# Altium footprint library project_x_pcb_library.PcbLib: 29 footprints (part 2 of 2)
Each footprint in its own frame and in the unit in brackets; x right, y up, seen from the top. Pads: shape width x height; smd on the part's side, far side on the other; paste and mask are expansions set on the pad; w line width, h text height; cw(c..) or ccw(c..) is an arc to the next point about the centre after c.
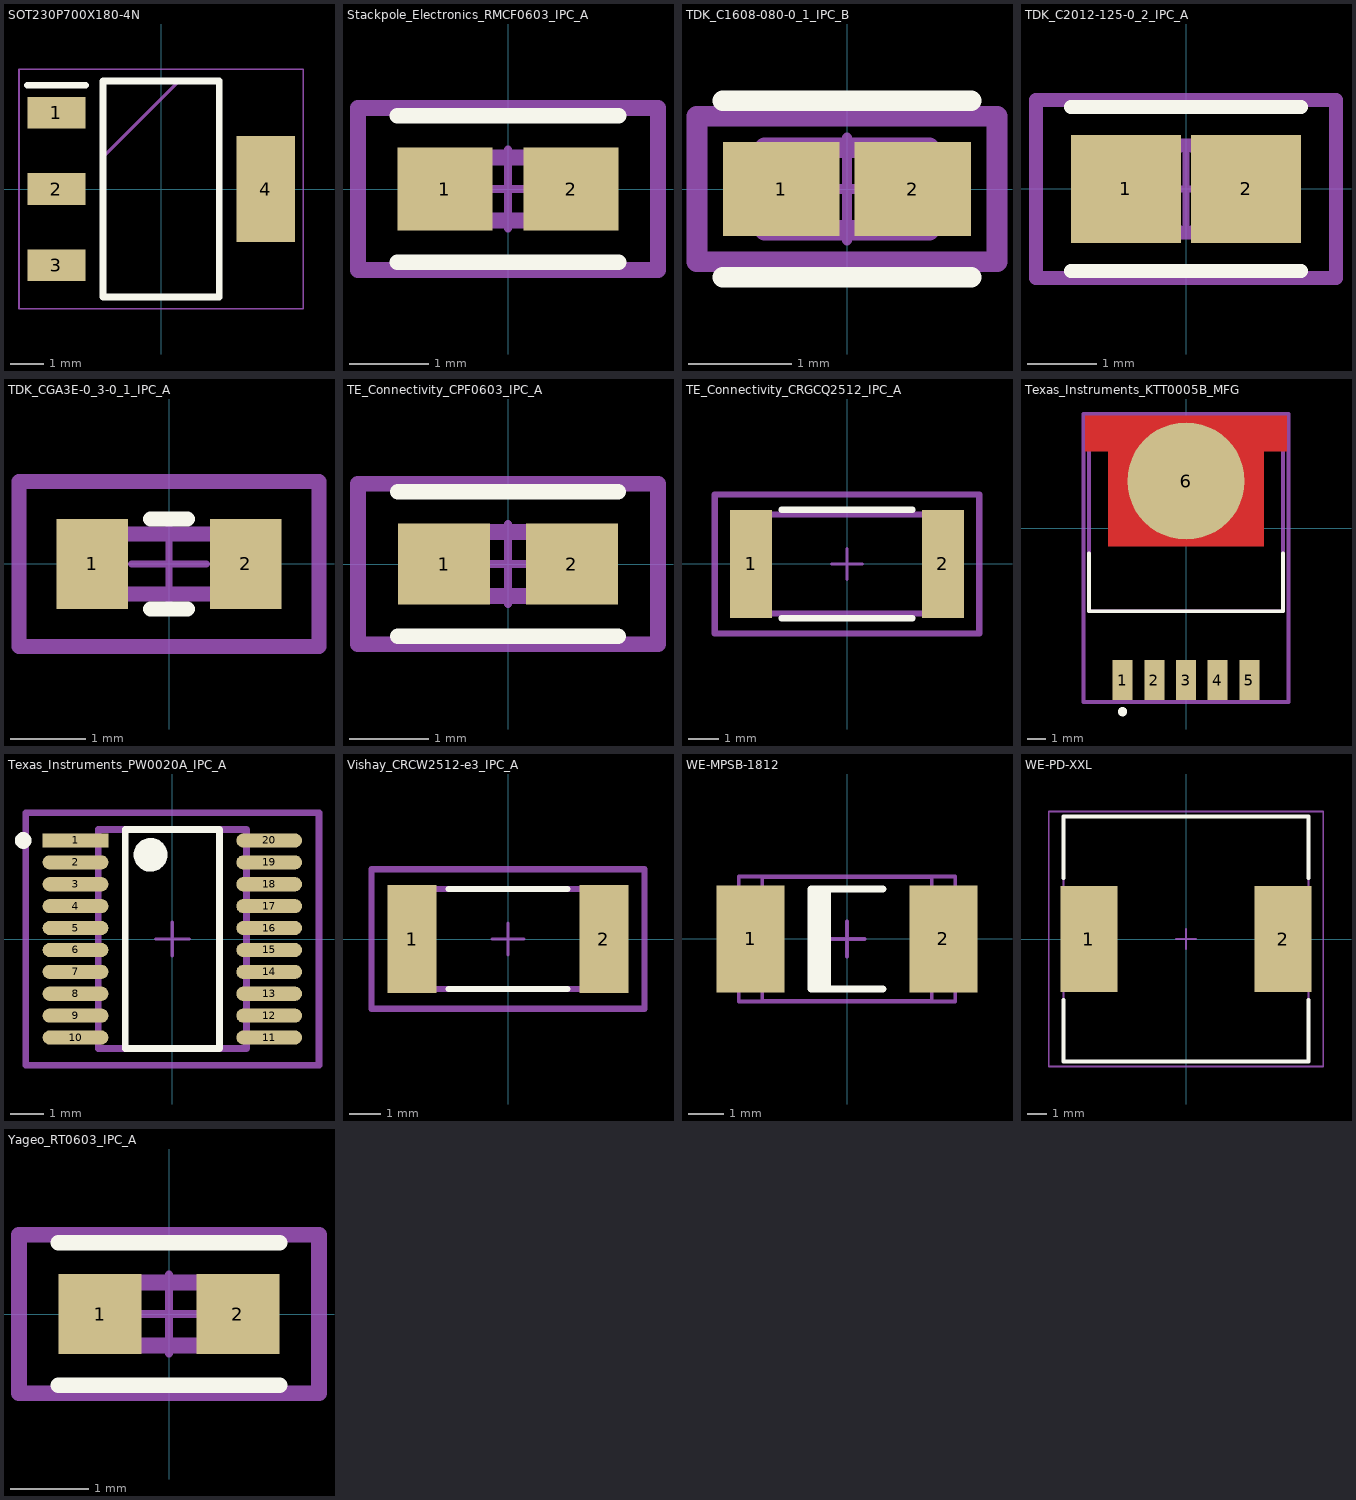
[diagram p1: the footprints below, top view; thin cyan lines are the x and y axes]

## SOT230P700X180-4N [mm]
pads (4):
  rect 1.75x0.95 smd: 1(-3.15,2.3) 2(-3.15,0) 3(-3.15,-2.3)
  rect 1.75x3.2 smd: 4(3.15,0)
Top Overlay:
  lines w0.2: -4.025,3.125 -2.275,3.125 ; -1.75,-3.25 1.75,-3.25 1.75,3.25 -1.75,3.25 -1.75,-3.25
Mechanical 13:
  lines w0.1: -1.75,0.95 0.55,3.25 ; -1.75,-3.25 1.75,-3.25 1.75,3.25 -1.75,3.25 -1.75,-3.25
Mechanical 15:
  lines w0.05: -4.275,-3.6 4.275,-3.6 4.275,3.6 -4.275,3.6 -4.275,-3.6
3D body "SPX1117M3-L-3-3_TR.stp": height 1.8, standoff 0, extent -3.5,-3.25 3.5,3.25

## Stackpole_Electronics_RMCF0603_IPC_A [mm]
pads (2):
  rect 1.206x1.058 smd paste+0 mask+0: 1(-0.801,0) 2(0.801,0)
Top Overlay:
  lines w0.2: -1.404,-0.929 1.404,-0.929 ; -1.404,0.929 1.404,0.929
Mechanical 10:
  lines w0.2: -1.904,-1.029 -1.904,1.029 1.904,1.029 1.904,-1.029 -1.904,-1.029
Mechanical 12:
  lines w0.2: -0.775,-0.4 -0.775,0.4 0.775,0.4 0.775,-0.4 -0.775,-0.4
Mechanical 15:
  lines w0.1: -0.5,0 0.5,0 ; 0,-0.5 0,0.5
  lines w0.2: -1.904,-1.029 -1.904,1.029 1.904,1.029 1.904,-1.029 -1.904,-1.029
3D body "Res_Stackpole_Electronics_RMCF0603JT10K0_eec.STEP": height 0.25, standoff 0, extent -1.904,-1.029 1.904,1.029

## TDK_C1608-080-0_1_IPC_B [mm]
pads (2):
  rect 1.131x0.912 smd paste+0 mask+0: 1(-0.641,0) 2(0.641,0)
Top Overlay:
  lines w0.2: -1.206,-0.856 1.206,-0.856 ; -1.206,0.856 1.206,0.856
Mechanical 10:
  lines w0.2: -1.456,-0.706 1.456,-0.706 1.456,0.706 -1.456,0.706 -1.456,-0.706
Mechanical 12:
  lines w0.2: -0.8,-0.4 0.8,-0.4 0.8,0.4 -0.8,0.4 -0.8,-0.4
Mechanical 15:
  lines w0.1: -0.5,0 0.5,0 ; 0,-0.5 0,0.5
  lines w0.2: -1.456,-0.706 1.456,-0.706 1.456,0.706 -1.456,0.706 -1.456,-0.706
3D body "Cap_TDK_C1608X7R1H334K080AC_eec.STEP": height 0.25, standoff 0, extent -1.456,-0.706 1.456,0.706

## TDK_C2012-125-0_2_IPC_A [mm]
pads (2):
  rect 1.578x1.556 smd paste+0 mask+0: 1(-0.864,0) 2(0.864,0)
Top Overlay:
  lines w0.2: -1.653,-1.178 1.653,-1.178 ; -1.653,1.178 1.653,1.178
Mechanical 10:
  lines w0.2: -2.153,-1.278 2.153,-1.278 2.153,1.278 -2.153,1.278 -2.153,-1.278
Mechanical 12:
  lines w0.2: -1,-0.625 1,-0.625 1,0.625 -1,0.625 -1,-0.625
Mechanical 15:
  lines w0.1: -0.5,0 0.5,0 ; 0,-0.5 0,0.5
  lines w0.2: -2.153,-1.278 2.153,-1.278 2.153,1.278 -2.153,1.278 -2.153,-1.278
3D body "Cap_TDK_C2012X7R2A104K125AA_eec.STEP": height 0.25, standoff 0, extent -2.153,-1.278 2.153,1.278

## TDK_CGA3E-0_3-0_1_IPC_A [mm]
pads (2):
  rect 0.956x1.206 smd paste+0 mask+0: 1(-1.025,0) 2(1.025,0)
Top Overlay:
  lines w0.2: -0.247,-0.603 0.247,-0.603 ; -0.247,0.603 0.247,0.603
Mechanical 10:
  lines w0.2: -2.003,-1.103 2.003,-1.103 2.003,1.103 -2.003,1.103 -2.003,-1.103
Mechanical 12:
  lines w0.2: -0.8,-0.4 0.8,-0.4 0.8,0.4 -0.8,0.4 -0.8,-0.4
Mechanical 15:
  lines w0.1: -0.5,0 0.5,0 ; 0,-0.5 0,0.5
  lines w0.2: -2.003,-1.103 2.003,-1.103 2.003,1.103 -2.003,1.103 -2.003,-1.103
3D body "Cap_TDK_CGA3E1X7R1C105K080AC_eec.STEP": height 0.25, standoff 0, extent -2.003,-1.103 2.003,1.103

## TE_Connectivity_CPF0603_IPC_A [mm]
pads (2):
  rect 1.158x1.012 smd paste+0 mask+0: 1(-0.802,0) 2(0.802,0)
Top Overlay:
  lines w0.2: -1.381,-0.906 1.381,-0.906 ; -1.381,0.906 1.381,0.906
Mechanical 10:
  lines w0.2: -1.881,-1.006 -1.881,1.006 1.881,1.006 1.881,-1.006 -1.881,-1.006
Mechanical 12:
  lines w0.2: -0.775,-0.4 -0.775,0.4 0.775,0.4 0.775,-0.4 -0.775,-0.4
Mechanical 15:
  lines w0.1: -0.5,0 0.5,0 ; 0,-0.5 0,0.5
  lines w0.2: -1.881,-1.006 -1.881,1.006 1.881,1.006 1.881,-1.006 -1.881,-1.006
3D body "Res_TE_Connectivity_CPF0603F100KC1_eec.STEP": height 0.25, standoff 0, extent -1.881,-1.006 1.881,1.006

## TE_Connectivity_CRGCQ2512_IPC_A [mm]
pads (2):
  rect 1.358x3.506 smd paste+0 mask+0: 1(-3.102,0) 2(3.102,0)
Top Overlay:
  lines w0.2: -2.123,-1.753 2.123,-1.753 ; -2.123,1.753 2.123,1.753
Mechanical 10:
  lines w0.2: -4.281,-2.253 4.281,-2.253 4.281,2.253 -4.281,2.253 -4.281,-2.253
Mechanical 12:
  lines w0.2: -3.175,-1.6 3.175,-1.6 3.175,1.6 -3.175,1.6 -3.175,-1.6
Mechanical 15:
  lines w0.1: -0.5,0 0.5,0 ; 0,-0.5 0,0.5
  lines w0.2: -4.281,-2.253 4.281,-2.253 4.281,2.253 -4.281,2.253 -4.281,-2.253
3D body "Res_TE_Connectivity_CRGCQ2512F22K_eec.STEP": height 0.25, standoff 0, extent -4.281,-2.253 4.281,2.253

## Texas_Instruments_KTT0005B_MFG [mm]
pads (6):
  rect 1.07x2.16 smd paste+0 mask+0: 1(-3.4,-8.13) 2(-1.7,-8.13) 3(0,-8.13) 4(1.7,-8.13) 5(3.4,-8.13)
  round 6.291 smd paste+0 mask+0: 6(0,2.545)
Top Layer:
  region: -5.4,6.04 5.4,6.04 5.4,4.13 4.165,4.13 4.165,-0.95 -4.165,-0.95 -4.165,4.13 -5.4,4.13
Top Overlay:
  circle w0.25: c-3.405,-9.825 r0.125
  lines w0.2: -5.205,-1.325 -5.205,-4.445 5.205,-4.445 5.205,-1.325
Mechanical 10:
  lines w0.2: -5.5,-9.31 -5.5,6.14 5.5,6.14 5.5,-9.31 -5.5,-9.31
Mechanical 12:
  lines w0.2: -5.205,-4.445 -5.205,4.445 5.205,4.445 5.205,-4.445 -5.205,-4.445
Mechanical 15:
  lines w0.1: -0.5,0 0.5,0 ; 0,-0.5 0,0.5
  lines w0.2: -5.5,-9.31 -5.5,6.14 5.5,6.14 5.5,-9.31 -5.5,-9.31
3D body "IC_Texas_Instruments_LM2577SX-ADJ-NOPB_eec.STEP": height 0.25, standoff 0, extent -5.5,-9.31 5.5,6.14

## Texas_Instruments_PW0020A_IPC_A [mm]
pads (20):
  rect 1.955x0.421 smd paste+0 mask+0: 1(-2.875,2.925)
  rrect100% 1.955x0.421 smd paste+0 mask+0: 2(-2.875,2.275) 3(-2.875,1.625) 4(-2.875,0.975) 5(-2.875,0.325) 6(-2.875,-0.325) 7(-2.875,-0.975) 8(-2.875,-1.625) 9(-2.875,-2.275) 10(-2.875,-2.925) 11(2.875,-2.925) 12(2.875,-2.275) 13(2.875,-1.625) 14(2.875,-0.975) 15(2.875,-0.325) 16(2.875,0.325) 17(2.875,0.975) 18(2.875,1.625) 19(2.875,2.275) 20(2.875,2.925)
Top Overlay:
  circle w0.25: c-4.428,2.925 r0.125
  circle w0.5: c-0.648,2.5 r0.25
  lines w0.2: -1.398,-3.25 -1.398,3.25 1.398,3.25 1.398,-3.25 -1.398,-3.25
Mechanical 10:
  lines w0.2: -4.353,-3.75 -4.353,3.75 4.353,3.75 4.353,-3.75 -4.353,-3.75
Mechanical 12:
  lines w0.2: -2.2,-3.25 -2.2,3.25 2.2,3.25 2.2,-3.25 -2.2,-3.25
Mechanical 15:
  lines w0.1: -0.5,0 0.5,0 ; 0,-0.5 0,0.5
  lines w0.2: -4.353,-3.75 -4.353,3.75 4.353,3.75 4.353,-3.75 -4.353,-3.75
3D body "IC_Texas_Instruments_PCM5102APWR_eec.STEP": height 0.25, standoff 0, extent -4.353,-3.75 4.353,3.75

## Vishay_CRCW2512-e3_IPC_A [mm]
pads (2):
  rect 1.555x3.408 smd paste+0 mask+0: 1(-3.026,0) 2(3.026,0)
Top Overlay:
  lines w0.2: -1.873,-1.575 1.873,-1.575 ; -1.873,1.575 1.873,1.575
Mechanical 10:
  lines w0.2: -4.303,-2.204 -4.303,2.204 4.303,2.204 4.303,-2.204 -4.303,-2.204
Mechanical 12:
  lines w0.2: -3.15,-1.575 -3.15,1.575 3.15,1.575 3.15,-1.575 -3.15,-1.575
Mechanical 15:
  lines w0.1: -0.5,0 0.5,0 ; 0,-0.5 0,0.5
  lines w0.2: -4.303,-2.204 -4.303,2.204 4.303,2.204 4.303,-2.204 -4.303,-2.204
3D body "Res_Vishay_CRCW25121K00FKEG_eec.STEP": height 0.25, standoff 0, extent -4.303,-2.204 4.303,2.204

## WE-MPSB-1812 [mm] "Chip Inductor, 2-Leads, Body 4.5x3.2mm, IPC Medium Density"
height 2.3
pads (2):
  rect 1.9x3 smd: 1(-2.7,0) 2(2.7,0)
Top Overlay:
  rectangle: -1,-1.4 -0.45,1.4
  lines w0.2: 1,-1.4 -1,-1.4 -1,1.4 1,1.4
Mechanical 13:
  lines w0.1: -2.375,-1.725 -2.375,1.725 2.375,1.725 2.375,-1.725 -2.375,-1.725
Mechanical 15:
  lines w0.1: -0.5,0 0.5,0 ; 0,-0.5 0,0.5 ; -3.025,-1.75 -3.025,1.75 3.025,1.75 3.025,-1.75 -3.025,-1.75
3D body "WE-MPSB_1812_MPSB.stp": height 1.15, standoff -1.15, extent -1.996,-1.549 2.504,1.651

## WE-PD-XXL [mm] "SMD Inductor, 2-Leads, Body 12.0 x 12.0 mm"
height 10
pads (2):
  rect 2.9x5.4 smd: 1(-4.95,0) 2(4.95,0)
Top Overlay:
  lines w0.2: -6.25,-3.1 -6.25,-6.25 6.25,-6.25 6.25,-3.1 ; -6.25,3.1 -6.25,6.25 6.25,6.25 6.25,3.1
Mechanical 13:
  lines w0.1: -6.25,-6.25 6.25,-6.25 6.25,6.25 -6.25,6.25 -6.25,-6.25
Mechanical 15:
  lines w0.1: -0.5,0 0.5,0 ; 0,-0.5 0,0.5 ; -7,-6.5 7,-6.5 7,6.5 -7,6.5 -7,-6.5
3D body "7447709001.stp": height 10.36, standoff -0.01, extent -6,-6 6,6

## Yageo_RT0603_IPC_A [mm]
pads (2):
  rect 1.059x1.012 smd paste+0 mask+0: 1(-0.877,0) 2(0.877,0)
Top Overlay:
  lines w0.2: -1.406,-0.906 1.406,-0.906 ; -1.406,0.906 1.406,0.906
Mechanical 10:
  lines w0.2: -1.906,-1.006 -1.906,1.006 1.906,1.006 1.906,-1.006 -1.906,-1.006
Mechanical 12:
  lines w0.2: -0.8,-0.4 -0.8,0.4 0.8,0.4 0.8,-0.4 -0.8,-0.4
Mechanical 15:
  lines w0.1: -0.5,0 0.5,0 ; 0,-0.5 0,0.5
  lines w0.2: -1.906,-1.006 -1.906,1.006 1.906,1.006 1.906,-1.006 -1.906,-1.006
3D body "Res_Yageo_RT0603BRB0710KL_eec.STEP": height 0.25, standoff 0, extent -1.906,-1.006 1.906,1.006